# Altium footprint library ROBOCAM_1.PcbLib: 116 footprints (part 1 of 8)
Each footprint in its own frame and in the unit in brackets; x right, y up, seen from the top. Pads: shape width x height; smd on the part's side, far side on the other; paste and mask are expansions set on the pad; w line width, h text height; cw(c..) or ccw(c..) is an arc to the next point about the centre after c.
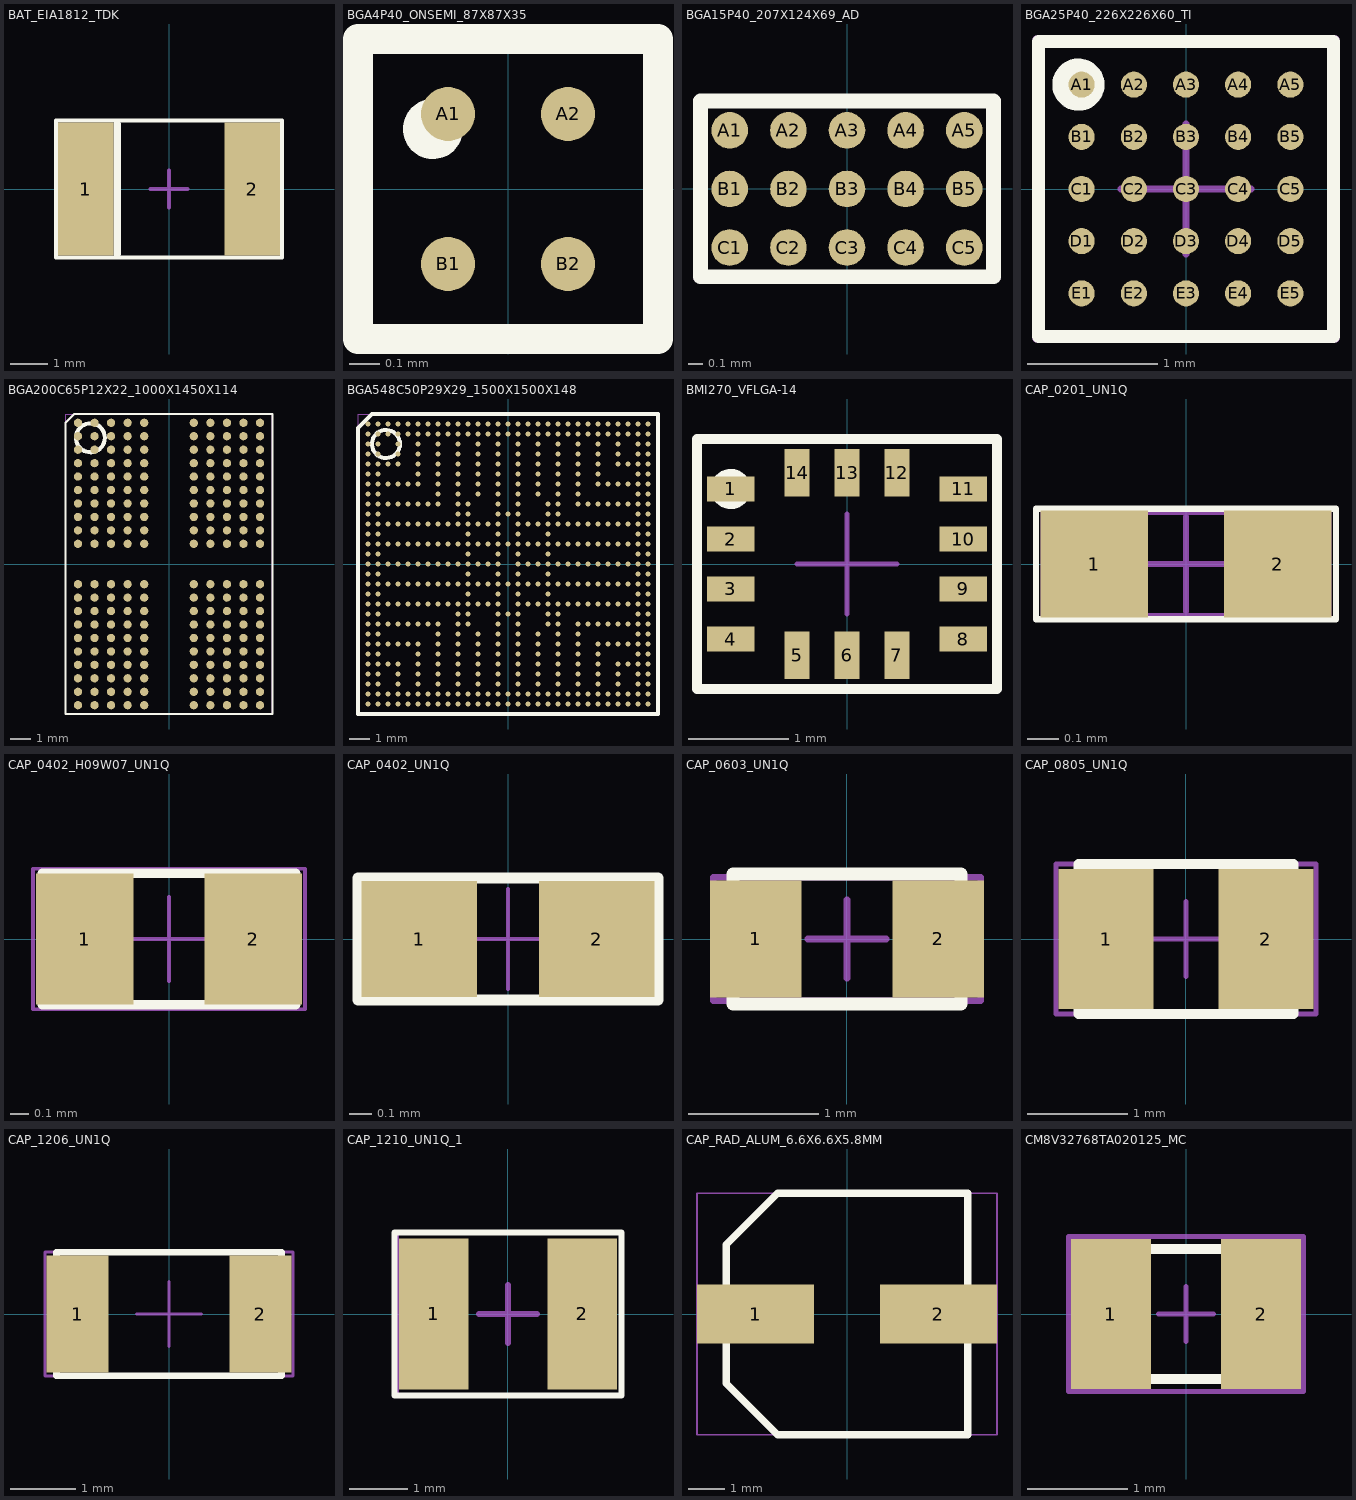
[diagram p0: the footprints below, top view; thin cyan lines are the x and y axes]

## BAT_EIA1812_TDK [mm] "BATT LITH CER 1.5V EIA1812, height 1.5mm"
height 1.5
pads (2):
  rect 1.5x3.6 smd paste+0 mask+0.05: 1(-2.25,0) 2(2.25,0)
Top Overlay:
  lines w0.1: -3.05,-1.85 3.05,-1.85 3.05,1.85 -3.05,1.85 -3.05,-1.85
  lines w0.2: -1.4,-1.75 -1.4,1.75
Top Courtyard:
  lines w0.05: -3.05,-1.85 3.05,-1.85 3.05,1.85 -3.05,1.85 -3.05,-1.85
  lines w0.1: -0.5,0 0.5,0 ; 0,-0.5 0,0.5
Top Designator:
  text ".Designator" at 7.618,0.508 h1.52
3D body "ceracharge_bct1812m101ag.step": height 1.1, standoff 0, extent -2.181,-1.42 2.219,1.581

## BGA4P40_ONSEMI_87X87X35 [mm] "Case 567KV"
height 0.3
pads (4):
  round 0.18 smd paste+0 mask+0.05: A1(-0.2,0.25) A2(0.2,0.25) B1(-0.2,-0.25) B2(0.2,-0.25)
Top Overlay:
  circle w0.1: c-0.25,0.2 r0.05
  lines w0.1: -0.5,-0.5 -0.5,0.5 0.5,0.5 0.5,-0.5 -0.5,-0.5
Top Courtyard:
  lines w0.05: -0.475,-0.475 0.475,-0.475 0.475,0.475 -0.475,0.475 -0.475,-0.475
Top Designator:
  text ".Designator" at 7.618,0.508 h1.52
3D body: height 0.4, standoff 0.35, extent -0.3,0.15 -0.1,0.35
3D body: height 0.35, standoff 0, extent -0.45,-0.45 0.45,0.45

## BGA15P40_207X124X69_AD [mm]
height 0.69
pads (15):
  round 0.25 smd paste-2539.97 mask-2539.97: A1(-0.8,0.4) A2(-0.4,0.4) A3(0,0.4) A4(0.4,0.4) A5(0.8,0.4) B1(-0.8,0) B2(-0.4,0) B3(0,0) B4(0.4,0) B5(0.8,0) C1(-0.8,-0.4) C2(-0.4,-0.4) C3(0,-0.4) C4(0.4,-0.4) C5(0.8,-0.4)
Top Overlay:
  circle w0.1: c-0.8,0.4 r0.05
  lines w0.1: -1,-0.6 -1,0.6 1,0.6 1,-0.6 -1,-0.6
Top Paste:
  circle w0.125: c0.8,-0.4 r0.062
  circle w0.125: c0.4,-0.4 r0.062
  circle w0.125: c0,-0.4 r0.062
  circle w0.125: c-0.4,-0.4 r0.062
  circle w0.125: c-0.8,-0.4 r0.062
  circle w0.125: c0.8,0 r0.062
  circle w0.125: c0.4,0 r0.062
  circle w0.125: c0,0 r0.062
  circle w0.125: c-0.4,0 r0.062
  circle w0.125: c-0.8,0 r0.062
  circle w0.125: c0.8,0.4 r0.062
  circle w0.125: c0.4,0.4 r0.062
  circle w0.125: c0,0.4 r0.062
  circle w0.125: c-0.4,0.4 r0.062
  circle w0.125: c-0.8,0.4 r0.062
Top Solder:
  circle w0.15: c0.8,-0.4 r0.075
  circle w0.15: c0.4,-0.4 r0.075
  circle w0.15: c0,-0.4 r0.075
  circle w0.15: c-0.4,-0.4 r0.075
  circle w0.15: c-0.8,-0.4 r0.075
  circle w0.15: c0.8,0 r0.075
  circle w0.15: c0.4,0 r0.075
  circle w0.15: c0,0 r0.075
  circle w0.15: c-0.4,0 r0.075
  circle w0.15: c-0.8,0 r0.075
  circle w0.15: c0.8,0.4 r0.075
  circle w0.15: c0.4,0.4 r0.075
  circle w0.15: c0,0.4 r0.075
  circle w0.15: c-0.4,0.4 r0.075
  circle w0.15: c-0.8,0.4 r0.075
Top Courtyard:
  lines w0.05: -1.024,-0.609 -1.024,0.608 1.024,0.608 1.024,-0.609 -1.024,-0.609
Top Designator:
  text ".Designator" at -7.618,-0.508 h1.52
3D body: height 0.65, standoff 0.65, extent -0.95,0.35 -0.75,0.55
3D body "MAX14713EWL+.stp": height 0.69, standoff 0, extent -1.024,-0.609 1.024,0.609

## BGA25P40_226X226X60_TI [mm] "BGA25 pitch 0.4mm"
height 0.675
pads (25):
  round 0.2 smd paste+0 mask+0.05: A1(-0.8,0.8) A2(-0.4,0.8) A3(0,0.8) A4(0.4,0.8) A5(0.8,0.8) B1(-0.8,0.4) B2(-0.4,0.4) B3(0,0.4) B4(0.4,0.4) B5(0.8,0.4) C1(-0.8,0) C2(-0.4,0) C3(0,0) C4(0.4,0) C5(0.8,0) D1(-0.8,-0.4) D2(-0.4,-0.4) D3(0,-0.4) D4(0.4,-0.4) D5(0.8,-0.4) E1(-0.8,-0.8) E2(-0.4,-0.8) E3(0,-0.8) E4(0.4,-0.8) E5(0.8,-0.8)
Top Overlay:
  circle w0.2: c-0.825,0.8 r0.1
  lines w0.1: -1.13,-1.13 1.13,-1.13 1.13,1.13 -1.13,1.13 -1.13,-1.13
Top Courtyard:
  lines w0.05: -0.5,0 0.5,0 ; 0,-0.5 0,0.5 ; -1.15,-1.15 1.15,-1.15 1.15,1.15 -1.15,1.15 -1.15,-1.15
Top Designator:
  text ".Designator" at 7.618,0.508 h1.52
3D body "LP5523TM_NOPB.STEP": height 0.6, standoff 0, extent -1.13,-1.13 1.13,1.13

## BGA200C65P12X22_1000X1450X114 [mm] "BGA200"
height 1.2
pads (200):
  round 0.4 smd paste+0 mask+0.05: A1(-4.4,6.825) A2(-3.6,6.825) A3(-2.8,6.825) A4(-2,6.825) A5(-1.2,6.825) A8(1.2,6.825) A9(2,6.825) A10(2.8,6.825) A11(3.6,6.825) A12(4.4,6.825) AA1(-4.4,-6.175) AA2(-3.6,-6.175) AA3(-2.8,-6.175) AA4(-2,-6.175) AA5(-1.2,-6.175) AA8(1.2,-6.175) AA9(2,-6.175) AA10(2.8,-6.175) AA11(3.6,-6.175) AA12(4.4,-6.175) AB1(-4.4,-6.825) AB2(-3.6,-6.825) AB3(-2.8,-6.825) AB4(-2,-6.825) AB5(-1.2,-6.825) AB8(1.2,-6.825) AB9(2,-6.825) AB10(2.8,-6.825) AB11(3.6,-6.825) AB12(4.4,-6.825) B1(-4.4,6.175) B2(-3.6,6.175) B3(-2.8,6.175) B4(-2,6.175) B5(-1.2,6.175) B8(1.2,6.175) B9(2,6.175) B10(2.8,6.175) B11(3.6,6.175) B12(4.4,6.175) C1(-4.4,5.525) C2(-3.6,5.525) C3(-2.8,5.525) C4(-2,5.525) C5(-1.2,5.525) C8(1.2,5.525) C9(2,5.525) C10(2.8,5.525) C11(3.6,5.525) C12(4.4,5.525) D1(-4.4,4.875) D2(-3.6,4.875) D3(-2.8,4.875) D4(-2,4.875) D5(-1.2,4.875) D8(1.2,4.875) D9(2,4.875) D10(2.8,4.875) D11(3.6,4.875) D12(4.4,4.875) E1(-4.4,4.225) E2(-3.6,4.225) E3(-2.8,4.225) E4(-2,4.225) E5(-1.2,4.225) E8(1.2,4.225) E9(2,4.225) E10(2.8,4.225) E11(3.6,4.225) E12(4.4,4.225) F1(-4.4,3.575) F2(-3.6,3.575) F3(-2.8,3.575) F4(-2,3.575) F5(-1.2,3.575) F8(1.2,3.575) F9(2,3.575) F10(2.8,3.575) F11(3.6,3.575) F12(4.4,3.575) G1(-4.4,2.925) G2(-3.6,2.925) G3(-2.8,2.925) G4(-2,2.925) G5(-1.2,2.925) G8(1.2,2.925) G9(2,2.925) G10(2.8,2.925) G11(3.6,2.925) G12(4.4,2.925) H1(-4.4,2.275) H2(-3.6,2.275) H3(-2.8,2.275) H4(-2,2.275) H5(-1.2,2.275) H8(1.2,2.275) H9(2,2.275) H10(2.8,2.275) H11(3.6,2.275) H12(4.4,2.275) J1(-4.4,1.625) J2(-3.6,1.625) J3(-2.8,1.625) J4(-2,1.625) J5(-1.2,1.625) J8(1.2,1.625) J9(2,1.625) J10(2.8,1.625) J11(3.6,1.625) J12(4.4,1.625) K1(-4.4,0.975) K2(-3.6,0.975) K3(-2.8,0.975) K4(-2,0.975) K5(-1.2,0.975) K8(1.2,0.975) K9(2,0.975) K10(2.8,0.975) K11(3.6,0.975) K12(4.4,0.975) N1(-4.4,-0.975) N2(-3.6,-0.975) N3(-2.8,-0.975) N4(-2,-0.975) N5(-1.2,-0.975) N8(1.2,-0.975) N9(2,-0.975) N10(2.8,-0.975) N11(3.6,-0.975) N12(4.4,-0.975) P1(-4.4,-1.625) P2(-3.6,-1.625) P3(-2.8,-1.625) P4(-2,-1.625) P5(-1.2,-1.625) P8(1.2,-1.625) P9(2,-1.625) P10(2.8,-1.625) P11(3.6,-1.625) P12(4.4,-1.625) R1(-4.4,-2.275) R2(-3.6,-2.275) R3(-2.8,-2.275) R4(-2,-2.275) R5(-1.2,-2.275) R8(1.2,-2.275) R9(2,-2.275) R10(2.8,-2.275) R11(3.6,-2.275) R12(4.4,-2.275) T1(-4.4,-2.925) T2(-3.6,-2.925) T3(-2.8,-2.925) T4(-2,-2.925) T5(-1.2,-2.925) T8(1.2,-2.925) T9(2,-2.925) T10(2.8,-2.925) T11(3.6,-2.925) T12(4.4,-2.925) U1(-4.4,-3.575) U2(-3.6,-3.575) U3(-2.8,-3.575) U4(-2,-3.575) U5(-1.2,-3.575) U8(1.2,-3.575) U9(2,-3.575) U10(2.8,-3.575) U11(3.6,-3.575) U12(4.4,-3.575) V1(-4.4,-4.225) V2(-3.6,-4.225) V3(-2.8,-4.225) V4(-2,-4.225) V5(-1.2,-4.225) V8(1.2,-4.225) V9(2,-4.225) V10(2.8,-4.225) V11(3.6,-4.225) V12(4.4,-4.225) W1(-4.4,-4.875) W2(-3.6,-4.875) W3(-2.8,-4.875) W4(-2,-4.875) W5(-1.2,-4.875) W8(1.2,-4.875) W9(2,-4.875) W10(2.8,-4.875) W11(3.6,-4.875) W12(4.4,-4.875) Y1(-4.4,-5.525) Y2(-3.6,-5.525) Y3(-2.8,-5.525) Y4(-2,-5.525) Y5(-1.2,-5.525) Y8(1.2,-5.525) Y9(2,-5.525) Y10(2.8,-5.525) Y11(3.6,-5.525) Y12(4.4,-5.525)
Top Overlay:
  circle w0.2: c-3.8,6.1 r0.7
  lines w0.1: -5,-7.25 -5,6.824 -4.574,7.25 5,7.25 5,-7.25 -5,-7.25
Top Courtyard:
  lines w0.05: -5,-7.25 -5,7.25 5,7.25 5,-7.25 -5,-7.25
Top Designator:
  text ".Designator" at 7.618,0.508 h1.52
3D body: height 1.1, standoff 1, extent -4.6,5.2 -3,6.8
3D body "MT53E1536M32D4DE-046_WT_B_TR.stp": height 1.14, standoff 0, extent -5,-7.25 5,7.25

## BGA548C50P29X29_1500X1500X148 [mm] "BGA548"
height 1.35
pads (548):
  round 0.25 smd paste+0 mask+0.05: A1(-7,7) A2(-6.5,7) A3(-6,7) A4(-5.5,7) A5(-5,7) A6(-4.5,7) A7(-4,7) A8(-3.5,7) A9(-3,7) A10(-2.5,7) A11(-2,7) A12(-1.5,7) A13(-1,7) A14(-0.5,7) A15(0,7) A16(0.5,7) A17(1,7) A18(1.5,7) A19(2,7) A20(2.5,7) A21(3,7) A22(3.5,7) A23(4,7) A24(4.5,7) A25(5,7) A26(5.5,7) A27(6,7) A28(6.5,7) A29(7,7) AA1(-7,-3) AA2(-6.5,-3) AA3(-6,-3) AA4(-5.5,-3) AA5(-5,-3) AA6(-4.5,-3) AA7(-4,-3) AA8(-3.5,-3) AA10(-2.5,-3) AA11(-2,-3) AA14(-0.5,-3) AA16(0.5,-3) AA19(2,-3) AA20(2.5,-3) AA22(3.5,-3) AA23(4,-3) AA24(4.5,-3) AA25(5,-3) AA26(5.5,-3) AA27(6,-3) AA28(6.5,-3) AA29(7,-3) AB1(-7,-3.5) AB2(-6.5,-3.5) AB8(-3.5,-3.5) AB10(-2.5,-3.5) AB12(-1.5,-3.5) AB14(-0.5,-3.5) AB16(0.5,-3.5) AB18(1.5,-3.5) AB20(2.5,-3.5) AB22(3.5,-3.5) AB28(6.5,-3.5) AB29(7,-3.5) AC1(-7,-4) AC2(-6.5,-4) AC3(-6,-4) AC4(-5.5,-4) AC5(-5,-4) AC6(-4.5,-4) AC8(-3.5,-4) AC10(-2.5,-4) AC12(-1.5,-4) AC14(-0.5,-4) AC16(0.5,-4) AC18(1.5,-4) AC20(2.5,-4) AC22(3.5,-4) AC24(4.5,-4) AC25(5,-4) AC26(5.5,-4) AC27(6,-4) AC28(6.5,-4) AC29(7,-4) AD1(-7,-4.5) AD2(-6.5,-4.5) AD6(-4.5,-4.5) AD8(-3.5,-4.5) AD10(-2.5,-4.5) AD12(-1.5,-4.5) AD14(-0.5,-4.5) AD16(0.5,-4.5) AD18(1.5,-4.5) AD20(2.5,-4.5) AD22(3.5,-4.5) AD24(4.5,-4.5) AD28(6.5,-4.5) AD29(7,-4.5) AE1(-7,-5) AE2(-6.5,-5) AE3(-6,-5) AE4(-5.5,-5) AE6(-4.5,-5) AE8(-3.5,-5) AE10(-2.5,-5) AE12(-1.5,-5) AE14(-0.5,-5) AE16(0.5,-5) AE18(1.5,-5) AE20(2.5,-5) AE22(3.5,-5) AE24(4.5,-5) AE26(5.5,-5) AE27(6,-5) AE28(6.5,-5) AE29(7,-5) AF1(-7,-5.5) AF2(-6.5,-5.5) AF4(-5.5,-5.5) AF6(-4.5,-5.5) AF8(-3.5,-5.5) AF10(-2.5,-5.5) AF12(-1.5,-5.5) AF14(-0.5,-5.5) AF16(0.5,-5.5) AF18(1.5,-5.5) AF20(2.5,-5.5) AF22(3.5,-5.5) AF24(4.5,-5.5) AF26(5.5,-5.5) AF28(6.5,-5.5) AF29(7,-5.5) AG1(-7,-6) AG2(-6.5,-6) AG4(-5.5,-6) AG6(-4.5,-6) AG8(-3.5,-6) AG10(-2.5,-6) AG12(-1.5,-6) AG14(-0.5,-6) AG16(0.5,-6) AG18(1.5,-6) AG20(2.5,-6) AG22(3.5,-6) AG24(4.5,-6) AG26(5.5,-6) AG28(6.5,-6) AG29(7,-6) AH1(-7,-6.5) AH2(-6.5,-6.5) AH3(-6,-6.5) AH4(-5.5,-6.5) AH5(-5,-6.5) AH6(-4.5,-6.5) AH7(-4,-6.5) AH8(-3.5,-6.5) AH9(-3,-6.5) AH10(-2.5,-6.5) AH11(-2,-6.5) AH12(-1.5,-6.5) AH13(-1,-6.5) AH14(-0.5,-6.5) AH15(0,-6.5) AH16(0.5,-6.5) AH17(1,-6.5) AH18(1.5,-6.5) AH19(2,-6.5) AH20(2.5,-6.5) AH21(3,-6.5) AH22(3.5,-6.5) AH23(4,-6.5) AH24(4.5,-6.5) AH25(5,-6.5) AH26(5.5,-6.5) AH27(6,-6.5) AH28(6.5,-6.5) AH29(7,-6.5) AJ1(-7,-7) AJ2(-6.5,-7) AJ3(-6,-7) AJ4(-5.5,-7) AJ5(-5,-7) AJ6(-4.5,-7) AJ7(-4,-7) AJ8(-3.5,-7) AJ9(-3,-7) AJ10(-2.5,-7) AJ11(-2,-7) AJ12(-1.5,-7) AJ13(-1,-7) AJ14(-0.5,-7) AJ15(0,-7) AJ16(0.5,-7) AJ17(1,-7) AJ18(1.5,-7) AJ19(2,-7) AJ20(2.5,-7) AJ21(3,-7) AJ22(3.5,-7) AJ23(4,-7) AJ24(4.5,-7) AJ25(5,-7) AJ26(5.5,-7) AJ27(6,-7) AJ28(6.5,-7) AJ29(7,-7) B1(-7,6.5) B2(-6.5,6.5) B3(-6,6.5) B4(-5.5,6.5) B5(-5,6.5) B6(-4.5,6.5) B7(-4,6.5) B8(-3.5,6.5) B9(-3,6.5) B10(-2.5,6.5) B11(-2,6.5) B12(-1.5,6.5) B13(-1,6.5) B14(-0.5,6.5) B15(0,6.5) B16(0.5,6.5) B17(1,6.5) B18(1.5,6.5) B19(2,6.5) B20(2.5,6.5) B21(3,6.5) B22(3.5,6.5) B23(4,6.5) B24(4.5,6.5) B25(5,6.5) B26(5.5,6.5) B27(6,6.5) B28(6.5,6.5) B29(7,6.5) C1(-7,6) C2(-6.5,6) C4(-5.5,6) C6(-4.5,6) C8(-3.5,6) C10(-2.5,6) C12(-1.5,6) C14(-0.5,6) C16(0.5,6) C18(1.5,6) C20(2.5,6) C22(3.5,6) C24(4.5,6) C26(5.5,6) C28(6.5,6) C29(7,6) D1(-7,5.5) D2(-6.5,5.5) D4(-5.5,5.5) D6(-4.5,5.5) D8(-3.5,5.5) D10(-2.5,5.5) D12(-1.5,5.5) D14(-0.5,5.5) D16(0.5,5.5) D18(1.5,5.5) D20(2.5,5.5) D22(3.5,5.5) D24(4.5,5.5) D26(5.5,5.5) D28(6.5,5.5) D29(7,5.5) E1(-7,5) E2(-6.5,5) E3(-6,5) E4(-5.5,5) E6(-4.5,5) E8(-3.5,5) E10(-2.5,5) E12(-1.5,5) E14(-0.5,5) E16(0.5,5) E18(1.5,5) E20(2.5,5) E22(3.5,5) E24(4.5,5) E26(5.5,5) E27(6,5) E28(6.5,5) E29(7,5) F1(-7,4.5) F2(-6.5,4.5) F6(-4.5,4.5) F8(-3.5,4.5) F10(-2.5,4.5) F12(-1.5,4.5) F14(-0.5,4.5) F16(0.5,4.5) F18(1.5,4.5) F20(2.5,4.5) F22(3.5,4.5) F24(4.5,4.5) F28(6.5,4.5) F29(7,4.5) G1(-7,4) G2(-6.5,4) G3(-6,4) G4(-5.5,4) G5(-5,4) G6(-4.5,4) G8(-3.5,4) G10(-2.5,4) G12(-1.5,4) G14(-0.5,4) G16(0.5,4) G18(1.5,4) G20(2.5,4) G22(3.5,4) G24(4.5,4) G25(5,4) G26(5.5,4) G27(6,4) G28(6.5,4) G29(7,4) H1(-7,3.5) H2(-6.5,3.5) H8(-3.5,3.5) H10(-2.5,3.5) H12(-1.5,3.5) H14(-0.5,3.5) H16(0.5,3.5) H18(1.5,3.5) H20(2.5,3.5) H22(3.5,3.5) H28(6.5,3.5) H29(7,3.5) J1(-7,3) J2(-6.5,3) J3(-6,3) J4(-5.5,3) J5(-5,3) J6(-4.5,3) J7(-4,3) J8(-3.5,3) J10(-2.5,3) J11(-2,3) J14(-0.5,3) J16(0.5,3) J19(2,3) J20(2.5,3) J22(3.5,3) J23(4,3) J24(4.5,3) J25(5,3) J26(5.5,3) J27(6,3) J28(6.5,3) J29(7,3) K1(-7,2.5) K2(-6.5,2.5) K10(-2.5,2.5) K11(-2,2.5) K14(-0.5,2.5) K15(0,2.5) K16(0.5,2.5) K19(2,2.5) K20(2.5,2.5) K28(6.5,2.5) K29(7,2.5) L1(-7,2) L2(-6.5,2) L3(-6,2) L4(-5.5,2) L5(-5,2) L6(-4.5,2) L7(-4,2) L8(-3.5,2) L9(-3,2) L10(-2.5,2) L11(-2,2) L12(-1.5,2) L13(-1,2) L14(-0.5,2) L16(0.5,2) L17(1,2) L18(1.5,2) L19(2,2) L20(2.5,2) L21(3,2) L22(3.5,2) L23(4,2) L24(4.5,2) L25(5,2) L26(5.5,2) L27(6,2) L28(6.5,2) L29(7,2) M1(-7,1.5) M2(-6.5,1.5) M11(-2,1.5) M14(-0.5,1.5) M16(0.5,1.5) M19(2,1.5) M28(6.5,1.5) M29(7,1.5) N1(-7,1) N2(-6.5,1) N3(-6,1) N4(-5.5,1) N5(-5,1) N6(-4.5,1) N7(-4,1) N8(-3.5,1) N9(-3,1) N10(-2.5,1) N11(-2,1) N12(-1.5,1) N13(-1,1) N14(-0.5,1) N15(0,1) N16(0.5,1) N17(1,1) N18(1.5,1) N19(2,1) N20(2.5,1) N21(3,1) N22(3.5,1) N23(4,1) N24(4.5,1) N25(5,1) N26(5.5,1) N27(6,1) N28(6.5,1) N29(7,1) P1(-7,0.5) P2(-6.5,0.5) P11(-2,0.5) P14(-0.5,0.5) P16(0.5,0.5) P19(2,0.5) P28(6.5,0.5) P29(7,0.5) R1(-7,0) R2(-6.5,0) R3(-6,0) R4(-5.5,0) R5(-5,0) R6(-4.5,0) R7(-4,0) R8(-3.5,0) R9(-3,0) R10(-2.5,0) R11(-2,0) R12(-1.5,0) R13(-1,0) R14(-0.5,0) R16(0.5,0) R17(1,0) R18(1.5,0) R19(2,0) R20(2.5,0) R21(3,0) R22(3.5,0) R23(4,0) R24(4.5,0) R25(5,0) R26(5.5,0) R27(6,0) R28(6.5,0) R29(7,0) T1(-7,-0.5) T2(-6.5,-0.5) T11(-2,-0.5) T14(-0.5,-0.5) T16(0.5,-0.5) T19(2,-0.5) T28(6.5,-0.5) T29(7,-0.5) U1(-7,-1) U2(-6.5,-1) U3(-6,-1) U4(-5.5,-1) U5(-5,-1) U6(-4.5,-1) U7(-4,-1) U8(-3.5,-1) U9(-3,-1) U10(-2.5,-1) U11(-2,-1) U12(-1.5,-1) U13(-1,-1) U14(-0.5,-1) U15(0,-1) U16(0.5,-1) U17(1,-1) U18(1.5,-1) U19(2,-1) U20(2.5,-1) U21(3,-1) U22(3.5,-1) U23(4,-1) U24(4.5,-1) U25(5,-1) U26(5.5,-1) U27(6,-1) U28(6.5,-1) U29(7,-1) V1(-7,-1.5) V2(-6.5,-1.5) V11(-2,-1.5) V14(-0.5,-1.5) V16(0.5,-1.5) V19(2,-1.5) V28(6.5,-1.5) V29(7,-1.5) W1(-7,-2) W2(-6.5,-2) W3(-6,-2) W4(-5.5,-2) W5(-5,-2) W6(-4.5,-2) W7(-4,-2) W8(-3.5,-2) W9(-3,-2) W10(-2.5,-2) W11(-2,-2) W12(-1.5,-2) W13(-1,-2) W14(-0.5,-2) W16(0.5,-2) W17(1,-2) W18(1.5,-2) W19(2,-2) W20(2.5,-2) W21(3,-2) W22(3.5,-2) W23(4,-2) W24(4.5,-2) W25(5,-2) W26(5.5,-2) W27(6,-2) W28(6.5,-2) W29(7,-2) Y1(-7,-2.5) Y2(-6.5,-2.5) Y10(-2.5,-2.5) Y11(-2,-2.5) Y14(-0.5,-2.5) Y15(0,-2.5) Y16(0.5,-2.5) Y19(2,-2.5) Y20(2.5,-2.5) Y28(6.5,-2.5) Y29(7,-2.5)
Top Overlay:
  circle w0.2: c-6.1,6 r0.7
  lines w0.2: -7.5,-7.5 7.5,-7.5 7.5,7.5 -6.8,7.5 -7.5,6.8 -7.5,-7.5
Top Courtyard:
  lines w0.05: -7.5,-7.5 7.5,-7.5 7.5,7.5 -7.5,7.5 -7.5,-7.5
Top Designator:
  text ".Designator" at -7.618,-0.508 h1.52
3D body: height 1.4, standoff 1.3, extent -6.6,4.6 -4.6,6.6
3D body "MIMX8ML8DVNLZAB.stp": height 1.48, standoff 0, extent -7.5,-7.5 7.5,7.5

## BMI270_VFLGA-14 [mm] "Low Power 6-Axis IMU Accelerometer, Gyroscope"
height 0.87
pads (14):
  rect 0.475x0.25 smd paste+0 mask+0.05: 1(-1.163,0.75) 2(-1.163,0.25) 3(-1.163,-0.25) 4(-1.163,-0.75) 8(1.162,-0.75) 9(1.162,-0.25) 10(1.162,0.25) 11(1.162,0.75)
  rect 0.25x0.475 smd paste+0 mask+0.05: 5(-0.5,-0.913) 6(0,-0.913) 7(0.5,-0.913) 12(0.5,0.913) 13(0,0.913) 14(-0.5,0.913)
Top Overlay:
  circle w0.2: c-1.163,0.75 r0.1
  lines w0.1: -1.5,-1.25 -1.5,1.25 1.5,1.25 1.5,-1.25 -1.5,-1.25
Top Courtyard:
  lines w0.05: -0.5,0 0.5,0 ; 0,-0.5 0,0.5 ; -1.5,-1.25 -1.5,-0.45 -1.5,1.25 1.5,1.25 1.5,-1.25 -1.5,-1.25
Top Designator:
  text ".Designator" at -7.618,-0.508 h1.52
3D body: height 0.82, standoff 0.5, extent -1.495,1.07 -1.32,1.245
3D body "BMI270.stp": height 0.83, standoff 0, extent -1.5,-1.25 1.5,1.25

## CAP_0201_UN1Q [mm] "Chip Capacitor 0201"
height 0.33
pads (2):
  rect 0.34x0.34 smd mask+0.05: 1(-0.29,0) 2(0.29,0)
Top Overlay:
  lines w0.02: -0.475,-0.175 0.475,-0.175 0.475,0.175 -0.475,0.175 -0.475,-0.175
Top Courtyard:
  lines w0.02: -0.145,0 0.145,0 ; 0,-0.15 0,0.15 ; -0.45,-0.165 0.45,-0.165 0.45,0.165 -0.45,0.165 -0.45,-0.165
Top Designator:
  text ".Designator" at -7.618,-0.508 h1.52
3D body "CAP_0210_H033W03.step": height 0.33, standoff 0, extent -0.3,-0.15 0.3,0.15

## CAP_0402_H09W07_UN1Q [mm] "Chip Capacitor 0402 BIG"
height 0.9
pads (2):
  rect 0.52x0.7 smd paste+0 mask+0.05: 1(-0.45,0) 2(0.45,0)
Top Overlay:
  lines w0.05: -0.675,-0.35 -0.675,0.35 0.675,0.35 0.675,-0.35 -0.675,-0.35
Top Courtyard:
  lines w0.02: -0.225,0 0.225,0 ; 0,-0.225 0,0.225 ; -0.725,-0.375 -0.725,0.375 0.725,0.375 0.725,-0.375 -0.725,-0.375
Top Designator:
  text ".Designator" at -7.618,-0.508 h1.52
3D body "CAP_0402_H09W07.step": height 0.9, standoff 0, extent -0.55,-0.35 0.55,0.35

## CAP_0402_UN1Q [mm] "Chip Capacitor 0402"
height 0.6
pads (2):
  rect 0.52x0.52 smd paste+0 mask+0.05: 1(-0.4,0) 2(0.4,0)
Top Overlay:
  lines w0.05: -0.675,-0.275 0.675,-0.275 0.675,0.275 -0.675,0.275 -0.675,-0.275
Top Courtyard:
  lines w0.02: -0.225,0 0.225,0 ; 0,-0.225 0,0.225 ; -0.675,-0.275 0.675,-0.275 0.675,0.275 -0.675,0.275 -0.675,-0.275
Top Designator:
  text ".Designator" at 7.618,0.508 h1.52
3D body "CAP_0402_H06W05.step": height 0.6, standoff 0, extent -0.5,-0.25 0.5,0.25

## CAP_0603_UN1Q [mm] "Chip Capacitor 0603"
height 1
pads (2):
  rect 0.7x0.9 smd paste+0 mask+0.05: 1(-0.7,0) 2(0.7,0)
Top Overlay:
  lines w0.1: -0.875,-0.5 0.875,-0.5 0.875,0.5 -0.875,0.5 -0.875,-0.5
Top Courtyard:
  lines w0.05: -0.3,0 0.3,0 ; 0,-0.3 0,0.3 ; -1.025,-0.475 -1.025,0.475 1.025,0.475 1.025,-0.475 -1.025,-0.475
Top Designator:
  text ".Designator" at 7.618,0.508 h1.52
3D body "CAP_0603_H10W09.step": height 1, standoff 0, extent -0.8,-0.45 0.8,0.45

## CAP_0805_UN1Q [mm] "Chip Capacitor 0805"
height 1.45
pads (2):
  rect 0.95x1.4 smd paste+0 mask+0.05: 1(-0.8,0) 2(0.8,0)
Top Overlay:
  lines w0.1: -1.075,-0.75 1.075,-0.75 1.075,0.75 -1.075,0.75 -1.075,-0.75
Top Courtyard:
  lines w0.05: -0.375,0 0.375,0 ; 0,-0.375 0,0.375 ; -1.3,-0.75 -1.3,0.75 1.3,0.75 1.3,-0.75 -1.3,-0.75
Top Designator:
  text ".Designator" at 7.618,0.508 h1.52
3D body "CAP_0805_H145W14.step": height 1.45, standoff 0, extent -1,-0.7 1,0.7

## CAP_1206_UN1Q [mm] "Chip Capacitor 1206"
height 1.9
pads (2):
  rect 0.95x1.8 smd paste+0 mask+0.05: 1(-1.4,0) 2(1.4,0)
Top Overlay:
  lines w0.1: -1.725,-0.95 -1.725,0.95 1.725,0.95 1.725,-0.95 -1.725,-0.95
Top Courtyard:
  lines w0.05: -0.5,0 0.5,0 ; 0,-0.5 0,0.5 ; -1.9,-0.95 -1.9,0.95 1.9,0.95 1.9,-0.95 -1.9,-0.95
Top Designator:
  text ".Designator" at 7.618,0.508 h1.52
3D body "CAP_1206_H19W18.step": height 1.9, standoff 0, extent -1.6,-0.9 1.6,0.9

## CAP_1210_UN1Q_1 [mm] "1210 Chip Capacitor, Body 3.2x2.5mm, Height 2.5mm"
height 2.7
pads (2):
  rect 1.2x2.6 smd paste+0 mask+0.05: 1(-1.275,0) 2(1.275,0)
Top Overlay:
  lines w0.1: -1.95,-1.4 1.95,-1.4 1.95,1.4 -1.95,1.4 -1.95,-1.4
Top Courtyard:
  lines w0.05: -1.9,-1.4 -1.9,1.4 1.95,1.4 1.95,-1.4 -1.9,-1.4
  lines w0.1: -0.5,0 0.5,0 ; 0,-0.5 0,0.5
Top Designator:
  text ".Designator" at 7.618,0.508 h1.52
3D body "GRM32ER60J107ME20L.STEP": height 2.5, standoff 0, extent -1.6,-1.1 1.6,1.1

## CAP_RAD_ALUM_6.6X6.6X5.8MM [mm] "Radial 6.6 x 6.6mm aluminium capacitor"
height 5.8
pads (2):
  rect 3.2x1.6 smd paste+0 mask+0.05: 1(-2.5,0) 2(2.5,0)
Top Overlay:
  lines w0.2: -3,0 -2,0 ; -2.5,-0.5 -2.5,0.5 ; -3.3,-1.9 -1.9,-3.3 3.3,-3.3 3.3,3.3 -1.9,3.3 -3.3,1.9 -3.3,-1.9
Top 3D Body:
  lines w0.1: -3.3,-1.5 -3.3,1.5 ; -1.5,-3.3 3.3,-3.3 3.3,3.3 -1.5,3.3
Top Courtyard:
  lines w0.05: -4.1,-3.3 -4.1,3.3 4.1,3.3 4.1,-3.3 -4.1,-3.3
Top Designator:
  text ".Designator" at -7.618,-0.508 h1.52
3D body "EEE-FP0J101AL.stp": height 5.8, standoff 0, extent -3.65,-3.3 3.65,3.3

## CM8V32768TA020125_MC [mm] "2.0 x 1.2 x 0.60 mm"
height 0.6
pads (2):
  rect 0.8x1.5 smd paste+0 mask+0.06: 1(-0.75,0) 2(0.75,0)
Top Overlay:
  lines w0.1: -1.05,-0.65 -1.05,0.65 1.025,0.65 1.025,-0.65 -1.05,-0.65
Top Courtyard:
  lines w0.05: -0.275,0 0.275,0 ; 0,-0.275 0,0.275 ; -1.175,-0.775 -1.175,0.775 1.175,0.775 1.175,-0.775 -1.175,-0.775
Top Designator:
  text ".Designator" at -7.618,-0.508 h1.52
3D body "CM8V-T1A.stp": height 0.63, standoff 0.03, extent -1,-0.6 1,0.6